# Altium schematic symbol library GC6123.SchLib: 1 symbol
Pins are listed as number, name and electrical type; pins without a type are passive.

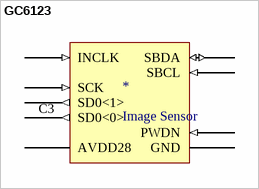
[diagram p0: symbol GC6123]

## GC6123
designator *, comment Image Sensor
GalaxyCore GC6123 328 x 244 CMOS image sensor.
footprint GC6123 (CMOS Image Sensor, 328 x 244)
pins: A1 AVDD28 (power), A2 SBCL (in), A3 PWDN (in), B1 GND (power), B2 SD0<1> (out), B3 SBDA (io), C1 INCLK (in), C2 SCK (in), C3 SD0<0> (out)